# Altium integrated library MT47H64M16HR_25_H.IntLib: 1 symbol
Pins are listed as number, name and electrical type; pins without a type are passive.

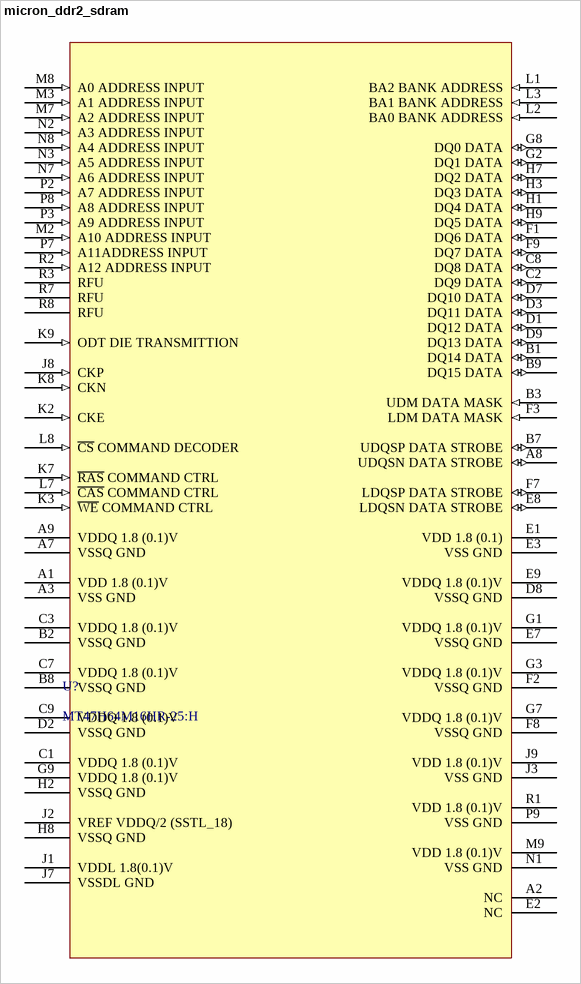
[diagram p0: symbol micron_ddr2_sdram]

## micron_ddr2_sdram
designator U?, comment MT47H64M16HR-25:H
DDR2 SDRAM with configuration of 64 Meg * 16 bits; Designer: Faheem Minhas; Company: PhasePhotonics; Date Created: 18-Janruary-2019; Data Sheet URL: static6.arrow.com/aropdfconversion/e8a5cdd149c7439f33fcdfacad6c2c34fc62263c/mt47h64m16hr-25it.pdf; Byer URL: https://www.arrow.com/en/products/mt47h64m16hr-25h/micron-technology
footprint BGA84CP80_15X9_1250X900X120B45N
pins: A1 VDD 1.8 (0.1)V (power) "Power supply 1.8V +- 0.1 V.", A2 NC (oe) "Unconnected.", A3 VSS GND (power) "Ground.", A7 VSSQ GND (power) "DQ ground isolated on device.", A8 UDQSN DATA STROBE (io) "Differential data mode strobe for upper bits DQ[15:8].", A9 VDDQ 1.8 (0.1)V (power) "DQ Power supply 1.8V tolerance 0.1V.", B1 DQ14 DATA (io) "Bidirectional data.", B2 VSSQ GND (power) "DQ ground isolated on device.", B3 UDM DATA MASK (in) "Input data mask fgor upper bits DQ[15:8].", B7 UDQSP DATA STROBE (io) "Data strobe for upper bits DQ[15:8].", B8 VSSQ GND (power) "DQ ground isolated on device.", B9 DQ15 DATA (io) "Bidirectional data.", C1 VDDQ 1.8 (0.1)V (power) "DQ Power supply 1.8V tolerance 0.1V.", C2 DQ9 DATA (io) "Bidirectional data.", C3 VDDQ 1.8 (0.1)V (power) "DQ Power supply 1.8V tolerance 0.1V.", C7 VDDQ 1.8 (0.1)V (power) "DQ Power supply 1.8V tolerance 0.1V.", C8 DQ8 DATA (io) "Bidirectional data.", C9 VDDQ 1.8 (0.1)V (power) "DQ Power supply 1.8V tolerance 0.1V.", D1 DQ12 DATA (io) "Bidirectional data.", D2 VSSQ GND (power) "DQ ground isolated on device.", D3 DQ11 DATA (io) "Bidirectional data.", D7 DQ10 DATA (io) "Bidirectional data.", D8 VSSQ GND (power) "DQ ground isolated on device.", D9 DQ13 DATA (io) "Bidirectional data.", E1 VDD 1.8 (0.1) (power) "Power supply 1.8V +- 0.1 V.", E2 NC (oe) "Unconnected.", E3 VSS GND (power) "Ground.", E7 VSSQ GND (power) "DQ ground isolated on device.", E8 LDQSN DATA STROBE (io) "Differential data mode strobe for lower bits DQ[7:0].", E9 VDDQ 1.8 (0.1)V (power) "DQ Power supply 1.8V tolerance 0.1V.", F1 DQ6 DATA (io) "Bidirectional data.", F2 VSSQ GND (power) "DQ ground isolated on device.", F3 LDM DATA MASK (in) "Input data mask for lower bits DQ[7:0].", F7 LDQSP DATA STROBE (io) "Differential data mode strobe for lower bits DQ[7:0].", F8 VSSQ GND (power) "DQ ground isolated on device.", F9 DQ7 DATA (io) "Bidirectional data.", G1 VDDQ 1.8 (0.1)V (power) "DQ Power supply 1.8V tolerance 0.1V.", G2 DQ1 DATA (io) "Bidirectional data.", G3 VDDQ 1.8 (0.1)V (power) "DQ Power supply 1.8V tolerance 0.1V.", G7 VDDQ 1.8 (0.1)V (power) "DQ Power supply 1.8V tolerance 0.1V.", G8 DQ0 DATA (io) "Bidirectional data.", G9 VDDQ 1.8 (0.1)V (power) "DQ Power supply 1.8V tolerance 0.1V.", H1 DQ4 DATA (io) "Bidirectional data.", H2 VSSQ GND (power) "DQ ground isolated on device.", H3 DQ3 DATA (io) "Bidirectional data.", H7 DQ2 DATA (io) "Bidirectional data.", H8 VSSQ GND (power) "DQ ground isolated on device.", H9 DQ5 DATA (io) "Bidirectional data.", J1 VDDL 1.8(0.1)V (power) "DLL Power supply 1.8V tolerance 0.1V.", J2 VREF VDDQ/2 (SSTL_18) (power) "SSTL_18 reference supply(VDDQ/2).", J3 VSS GND (power) "Ground.", J7 VSSDL GND (power) "DQ ground isolated on device.", J8 CKP (in) "Differential clock input(+ve).", J9 VDD 1.8 (0.1)V (power) "Power supply 1.8V +- 0.1 V.", K2 CKE (in) "Clock enable.", K3 ~{WE} COMMAND CTRL (in) "Define command  being entered.", K7 ~{RAS} COMMAND CTRL (in) "Define command  being entered.", K8 CKN (in) "Differential clock input(-ve).", K9 ODT DIE TRANSMITTION (in) "On die termination.", L1 BA2 BANK ADDRESS (in) "Bank address select.", L2 BA0 BANK ADDRESS (in) "Bank address select.", L3 BA1 BANK ADDRESS (in) "Bank address select.", L7 ~{CAS} COMMAND CTRL (in) "Define command  being entered.", L8 ~{CS} COMMAND DECODER (in) "Enable command decoder", M2 A10 ADDRESS INPUT (in) "Address input.", M3 A1 ADDRESS INPUT (in) "Address input.", M7 A2 ADDRESS INPUT (in) "Address input.", M8 A0 ADDRESS INPUT (in) "Address input.", M9 VDD 1.8 (0.1)V (power) "Power supply 1.8V +- 0.1 V.", N1 VSS GND (power) "Ground.", N2 A3 ADDRESS INPUT (in) "Address input.", N3 A5 ADDRESS INPUT (in) "Address input.", N7 A6 ADDRESS INPUT (in) "Address input.", N8 A4 ADDRESS INPUT (in) "Address input.", P2 A7 ADDRESS INPUT (in) "Address input.", P3 A9 ADDRESS INPUT (in) "Address input.", P7 A11ADDRESS INPUT (in) "Address input.", P8 A8 ADDRESS INPUT (in) "Address input.", P9 VSS GND (power) "Ground.", R1 VDD 1.8 (0.1)V (power) "Power supply 1.8V +- 0.1 V.", R2 A12 ADDRESS INPUT (in) "Address input.", R3 RFU (oc) "Reserved for future use.", R7 RFU (oc) "Reserved for future use.", R8 RFU (oc) "Reserved for future use."